# EAGLE library part 61307221821 (library Eagle_BOARD-TO-BOARD_CONNECTORS (rev18b))
WR-PHD 2.54mm Dual Socket Header, 72 Pins =>Code : Con_BTB_SHD_2.54_2_61307221821 <http://katalog.we-online.de/media/images/eican/Con_BTB_SHD_2.54_2_6130xx21821_pf2.jpg> Details see: http://katalog.we-online.de/en/em/613_0xx_218_21 Created 2014-05-29, Karrer Zheng 2014 (C) Würth Elektronik
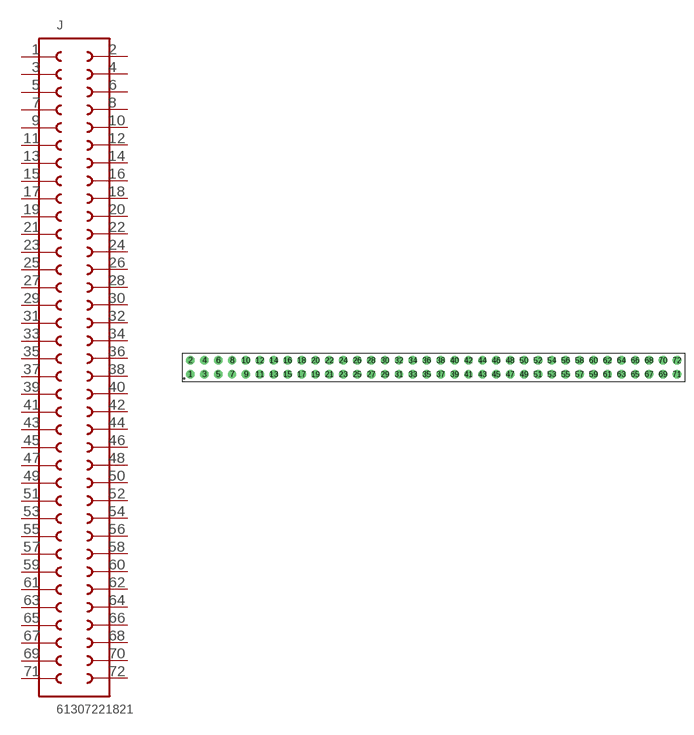
[diagram p125: symbol with the pads of 61307221821; footprint 61307221821]

Designator prefix J

## 61307221821  [61307221821]
1  1  pas
2  72  pas
3  2  pas
4  71  pas
5  3  pas
6  70  pas
7  4  pas
8  69  pas
9  5  pas
10  68  pas
11  6  pas
12  67  pas
13  7  pas
14  66  pas
15  8  pas
16  65  pas
17  9  pas
18  64  pas
19  10  pas
20  63  pas
21  11  pas
22  62  pas
23  12  pas
24  61  pas
25  13  pas
26  60  pas
27  14  pas
28  59  pas
29  15  pas
30  58  pas
31  16  pas
32  57  pas
33  17  pas
34  56  pas
35  18  pas
36  55  pas
37  19  pas
38  54  pas
39  20  pas
40  53  pas
41  21  pas
42  52  pas
43  22  pas
44  51  pas
45  23  pas
46  50  pas
47  24  pas
48  49  pas
49  25  pas
50  48  pas
51  26  pas
52  47  pas
53  27  pas
54  46  pas
55  28  pas
56  45  pas
57  29  pas
58  44  pas
59  30  pas
60  43  pas
61  31  pas
62  42  pas
63  32  pas
64  41  pas
65  33  pas
66  40  pas
67  34  pas
68  39  pas
69  35  pas
70  38  pas
71  36  pas
72  37  pas

## Footprint 61307221821 (pad centres in mm)
WR-PHD 2.54mm Dual Socket Header, 72 Pins
drill 1.02: 1 -44.45,-1.27; 2 -44.45,1.27; 3 -41.91,-1.27; 4 -41.91,1.27; 5 -39.37,-1.27; 6 -39.37,1.27; 7 -36.83,-1.27; 8 -36.83,1.27; 9 -34.29,-1.27; 10 -34.29,1.27; 11 -31.75,-1.27; 12 -31.75,1.27; 13 -29.21,-1.27; 14 -29.21,1.27; 15 -26.67,-1.27; 16 -26.67,1.27; 17 -24.13,-1.27; 18 -24.13,1.27; 19 -21.59,-1.27; 20 -21.59,1.27; 21 -19.05,-1.27; 22 -19.05,1.27; 23 -16.51,-1.27; 24 -16.51,1.27; 25 -13.97,-1.27; 26 -13.97,1.27; 27 -11.43,-1.27; 28 -11.43,1.27; 29 -8.89,-1.27; 30 -8.89,1.27; 31 -6.35,-1.27; 32 -6.35,1.27; 33 -3.81,-1.27; 34 -3.81,1.27; 35 -1.27,-1.27; 36 -1.27,1.27; 37 1.27,-1.27; 38 1.27,1.27; 39 3.81,-1.27; 40 3.81,1.27; 41 6.35,-1.27; 42 6.35,1.27; 43 8.89,-1.27; 44 8.89,1.27; 45 11.43,-1.27; 46 11.43,1.27; 47 13.97,-1.27; 48 13.97,1.27; 49 16.51,-1.27; 50 16.51,1.27; 51 19.05,-1.27; 52 19.05,1.27; 53 21.59,-1.27; 54 21.59,1.27; 55 24.13,-1.27; 56 24.13,1.27; 57 26.67,-1.27; 58 26.67,1.27; 59 29.21,-1.27; 60 29.21,1.27; 61 31.75,-1.27; 62 31.75,1.27; 63 34.29,-1.27; 64 34.29,1.27; 65 36.83,-1.27; 66 36.83,1.27; 67 39.37,-1.27; 68 39.37,1.27; 69 41.91,-1.27; 70 41.91,1.27; 71 44.45,-1.27; 72 44.45,1.27